# Altium footprint library Connector_Wire.PcbLib: 326 footprints (part 16 of 21)
Each footprint in its own frame and in the unit in brackets; x right, y up, seen from the top. Pads: shape width x height; smd on the part's side, far side on the other; paste and mask are expansions set on the pad; w line width, h text height; cw(c..) or ccw(c..) is an arc to the next point about the centre after c.
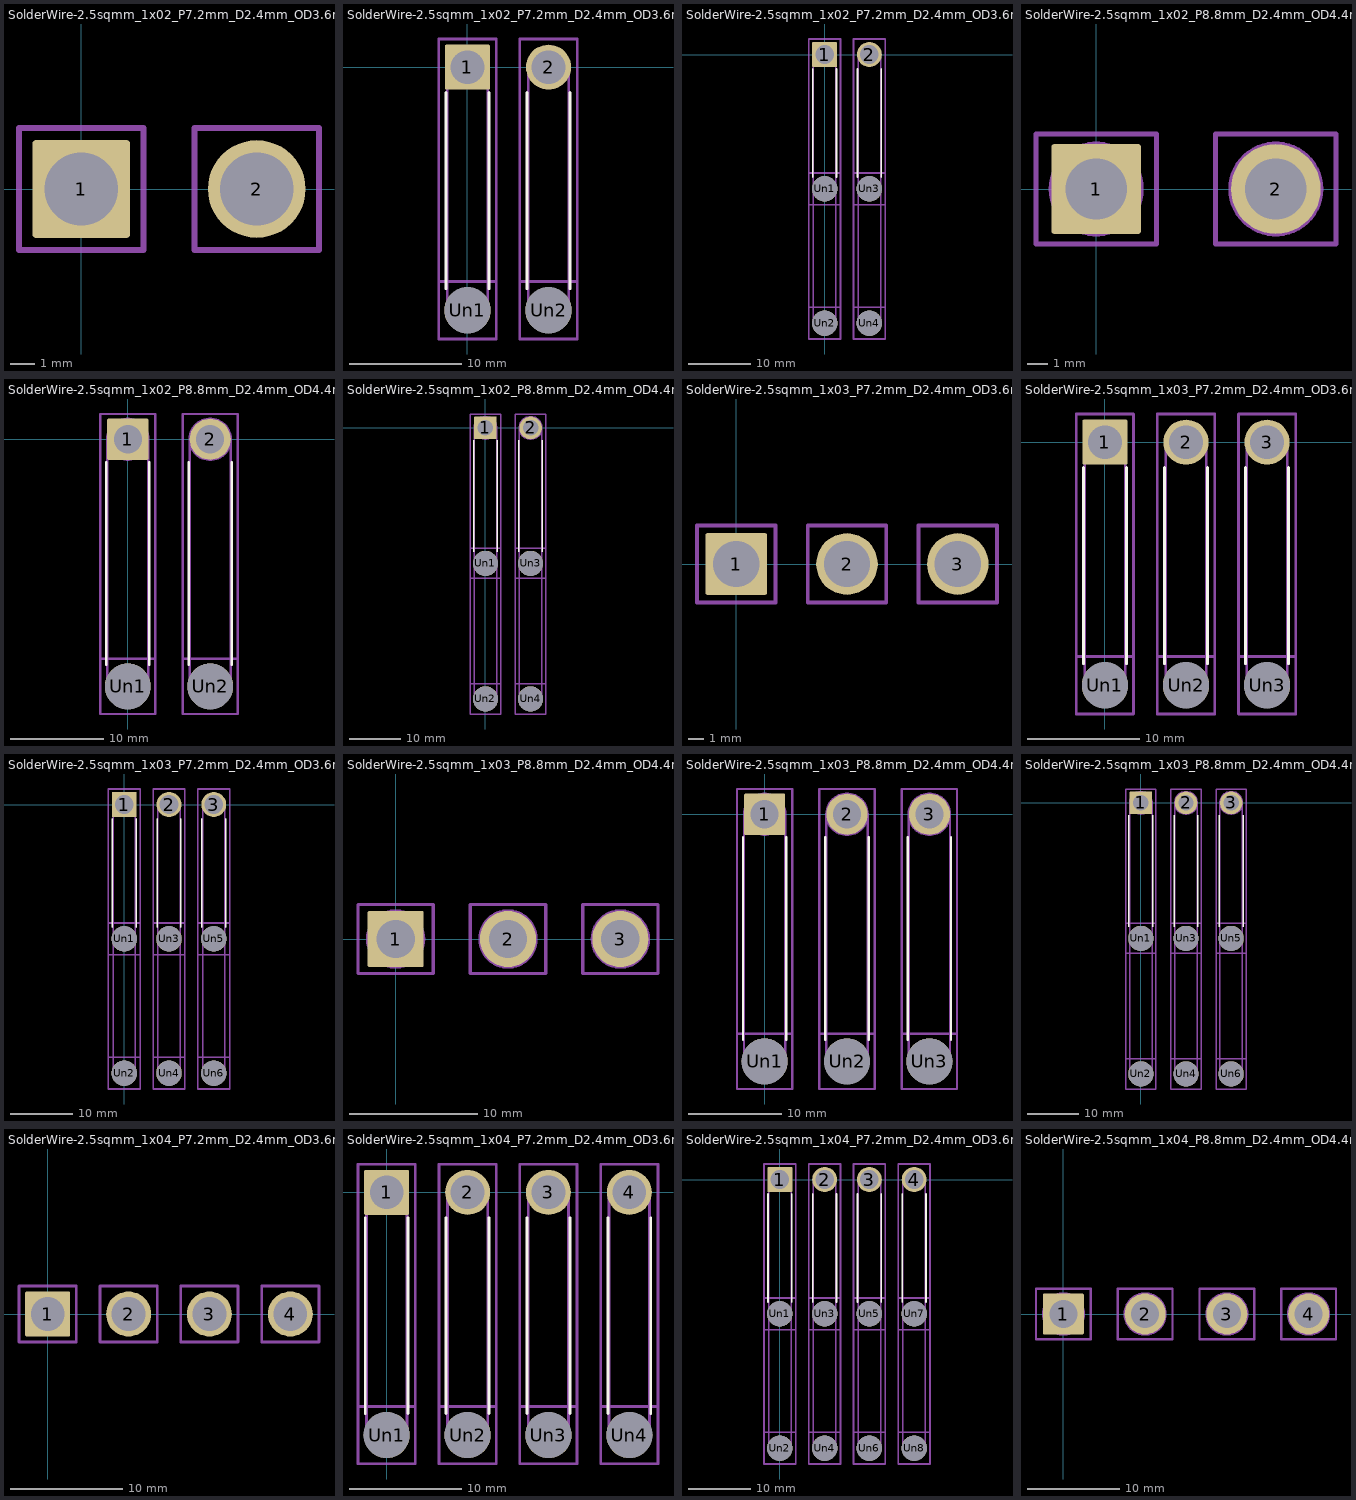
[diagram p15: the footprints below, top view; thin cyan lines are the x and y axes]

## SolderWire-2.5sqmm_1x02_P7.2mm_D2.4mm_OD3.6mm [mm]
pads (2):
  rrect6% 4x4 hole 3: 1(0,0)
  round 4 hole 3: 2(7.2,0)
Top Assembly:
  circle w0.254: c7.2,0 r1.8
  circle w0.254: c0,0 r1.8
  text "'.Designator'" at 4.44,-4.047 h1
Top Courtyard:
  lines w0.254: -2.55,-2.5 2.55,-2.5 2.55,2.5 -2.55,2.5 -2.55,-2.5 ; 4.65,-2.5 9.75,-2.5 9.75,2.5 4.65,2.5 4.65,-2.5
Top Designator:
  text ".Designator" at -4.018,-0.658 h1.52

## SolderWire-2.5sqmm_1x02_P7.2mm_D2.4mm_OD3.6mm_Relief [mm]
pads (4):
  rrect6% 4x4 hole 3: 1(0,0)
  round 4 hole 3: 2(7.2,0)
  round 4.1 hole 4.1: Un1(0,-21.6) Un2(7.2,-21.6)
F.SilkS:
  lines w0.254: -1.91,-19.69 -1.91,-2.26 ; 1.91,-19.69 1.91,-2.26 ; 5.29,-19.69 5.29,-2.26 ; 9.11,-19.69 9.11,-2.26
Top Assembly:
  circle w0.254: c7.2,-21.6 r1.8
  circle w0.254: c7.2,0 r1.8
  circle w0.254: c0,-21.6 r1.8
  circle w0.254: c0,0 r1.8
  lines w0.254: -1.8,-21.6 -1.8,0 ; 1.8,-21.6 1.8,0 ; 5.4,-21.6 5.4,0 ; 9,-21.6 9,0
  text "'.Designator'" at 4.44,-14.847 h1
Top Courtyard:
  lines w0.254: -2.55,-24.15 2.55,-24.15 2.55,2.5 -2.55,2.5 -2.55,-24.15 ; 4.65,-24.15 9.75,-24.15 9.75,2.5 4.65,2.5 4.65,-24.15
Bottom Courtyard:
  lines w0.254: -2.55,-24.15 2.55,-24.15 2.55,-19.05 -2.55,-19.05 -2.55,-24.15 ; 4.65,-24.15 9.75,-24.15 9.75,-19.05 4.65,-19.05 4.65,-24.15
Top Designator:
  text ".Designator" at -4.018,-11.333 h1.52

## SolderWire-2.5sqmm_1x02_P7.2mm_D2.4mm_OD3.6mm_Relief2x [mm]
pads (6):
  rrect6% 4x4 hole 3: 1(0,0)
  round 4 hole 3: 2(7.2,0)
  round 4.1 hole 4.1: Un1(0,-21.6) Un2(0,-43.2) Un3(7.2,-21.6) Un4(7.2,-43.2)
F.SilkS:
  lines w0.254: -1.91,-19.69 -1.91,-2.26 ; 1.91,-19.69 1.91,-2.26 ; 5.29,-19.69 5.29,-2.26 ; 9.11,-19.69 9.11,-2.26
B.SilkS:
  lines w0.254: -1.91,-41.29 -1.91,-23.51 ; 1.91,-41.29 1.91,-23.51 ; 5.29,-41.29 5.29,-23.51 ; 9.11,-41.29 9.11,-23.51
Top Assembly:
  circle w0.254: c7.2,-43.2 r1.8
  circle w0.254: c7.2,-21.6 r1.8
  circle w0.254: c7.2,0 r1.8
  circle w0.254: c0,-43.2 r1.8
  circle w0.254: c0,-21.6 r1.8
  circle w0.254: c0,0 r1.8
  lines w0.254: -1.8,-21.6 -1.8,0 ; 1.8,-21.6 1.8,0 ; 5.4,-21.6 5.4,0 ; 9,-21.6 9,0
  text "'.Designator'" at 4.44,-14.847 h1
Bottom Assembly:
  circle w0.254: c7.2,-43.2 r1.8
  circle w0.254: c7.2,-21.6 r1.8
  circle w0.254: c0,-43.2 r1.8
  circle w0.254: c0,-21.6 r1.8
  lines w0.254: -1.8,-43.2 -1.8,-21.6 ; 1.8,-43.2 1.8,-21.6 ; 5.4,-43.2 5.4,-21.6 ; 9,-43.2 9,-21.6
Top Courtyard:
  lines w0.254: -2.55,-45.75 2.55,-45.75 2.55,-40.65 -2.55,-40.65 -2.55,-45.75 ; -2.55,-24.15 2.55,-24.15 2.55,2.5 -2.55,2.5 -2.55,-24.15 ; 4.65,-45.75 9.75,-45.75 9.75,-40.65 4.65,-40.65 4.65,-45.75 ; 4.65,-24.15 9.75,-24.15 9.75,2.5 4.65,2.5 4.65,-24.15
Bottom Courtyard:
  lines w0.254: -2.55,-45.75 2.55,-45.75 2.55,-19.05 -2.55,-19.05 -2.55,-45.75 ; 4.65,-45.75 9.75,-45.75 9.75,-19.05 4.65,-19.05 4.65,-45.75
Top Designator:
  text ".Designator" at -4.018,-22.133 h1.52

## SolderWire-2.5sqmm_1x02_P8.8mm_D2.4mm_OD4.4mm [mm]
pads (2):
  rrect6% 4.4x4.4 hole 3: 1(0,0)
  round 4.4 hole 3: 2(8.8,0)
Top Assembly:
  circle w0.254: c8.8,0 r2.2
  circle w0.254: c0,0 r2.2
  text "'.Designator'" at 0.353,-0.84 h1
Top Courtyard:
  lines w0.254: -2.95,-2.7 2.95,-2.7 2.95,2.7 -2.95,2.7 -2.95,-2.7 ; 5.85,-2.7 11.75,-2.7 11.75,2.7 5.85,2.7 5.85,-2.7
Top Designator:
  text ".Designator" at -3.218,-0.508 h1.52

## SolderWire-2.5sqmm_1x02_P8.8mm_D2.4mm_OD4.4mm_Relief [mm]
pads (4):
  rrect6% 4.4x4.4 hole 3: 1(0,0)
  round 4.4 hole 3: 2(8.8,0)
  round 4.9 hole 4.9: Un1(0,-26.4) Un2(8.8,-26.4)
F.SilkS:
  lines w0.254: -2.31,-24.09 -2.31,-2.46 ; 2.31,-24.09 2.31,-2.46 ; 6.49,-24.09 6.49,-2.46 ; 11.11,-24.09 11.11,-2.46
Top Assembly:
  circle w0.254: c8.8,-26.4 r2.2
  circle w0.254: c8.8,0 r2.2
  circle w0.254: c0,-26.4 r2.2
  circle w0.254: c0,0 r2.2
  lines w0.254: -2.2,-26.4 -2.2,0 ; 2.2,-26.4 2.2,0 ; 6.6,-26.4 6.6,0 ; 11,-26.4 11,0
  text "'.Designator'" at 0.353,-14.04 h1
Top Courtyard:
  lines w0.254: -2.95,-29.35 2.95,-29.35 2.95,2.7 -2.95,2.7 -2.95,-29.35 ; 5.85,-29.35 11.75,-29.35 11.75,2.7 5.85,2.7 5.85,-29.35
Bottom Courtyard:
  lines w0.254: -2.95,-29.35 2.95,-29.35 2.95,-23.45 -2.95,-23.45 -2.95,-29.35 ; 5.85,-29.35 11.75,-29.35 11.75,-23.45 5.85,-23.45 5.85,-29.35
Top Designator:
  text ".Designator" at -3.218,-13.833 h1.52

## SolderWire-2.5sqmm_1x02_P8.8mm_D2.4mm_OD4.4mm_Relief2x [mm]
pads (6):
  rrect6% 4.4x4.4 hole 3: 1(0,0)
  round 4.4 hole 3: 2(8.8,0)
  round 4.9 hole 4.9: Un1(0,-26.4) Un2(0,-52.8) Un3(8.8,-26.4) Un4(8.8,-52.8)
F.SilkS:
  lines w0.254: -2.31,-24.09 -2.31,-2.46 ; 2.31,-24.09 2.31,-2.46 ; 6.49,-24.09 6.49,-2.46 ; 11.11,-24.09 11.11,-2.46
B.SilkS:
  lines w0.254: -2.31,-50.49 -2.31,-28.71 ; 2.31,-50.49 2.31,-28.71 ; 6.49,-50.49 6.49,-28.71 ; 11.11,-50.49 11.11,-28.71
Top Assembly:
  circle w0.254: c8.8,-52.8 r2.2
  circle w0.254: c8.8,-26.4 r2.2
  circle w0.254: c8.8,0 r2.2
  circle w0.254: c0,-52.8 r2.2
  circle w0.254: c0,-26.4 r2.2
  circle w0.254: c0,0 r2.2
  lines w0.254: -2.2,-26.4 -2.2,0 ; 2.2,-26.4 2.2,0 ; 6.6,-26.4 6.6,0 ; 11,-26.4 11,0
  text "'.Designator'" at 0.353,-14.04 h1
Bottom Assembly:
  circle w0.254: c8.8,-52.8 r2.2
  circle w0.254: c8.8,-26.4 r2.2
  circle w0.254: c0,-52.8 r2.2
  circle w0.254: c0,-26.4 r2.2
  lines w0.254: -2.2,-52.8 -2.2,-26.4 ; 2.2,-52.8 2.2,-26.4 ; 6.6,-52.8 6.6,-26.4 ; 11,-52.8 11,-26.4
Top Courtyard:
  lines w0.254: -2.95,-55.75 2.95,-55.75 2.95,-49.85 -2.95,-49.85 -2.95,-55.75 ; -2.95,-29.35 2.95,-29.35 2.95,2.7 -2.95,2.7 -2.95,-29.35 ; 5.85,-55.75 11.75,-55.75 11.75,-49.85 5.85,-49.85 5.85,-55.75 ; 5.85,-29.35 11.75,-29.35 11.75,2.7 5.85,2.7 5.85,-29.35
Bottom Courtyard:
  lines w0.254: -2.95,-55.75 2.95,-55.75 2.95,-23.45 -2.95,-23.45 -2.95,-55.75 ; 5.85,-55.75 11.75,-55.75 11.75,-23.45 5.85,-23.45 5.85,-55.75
Top Designator:
  text ".Designator" at -3.218,-27.033 h1.52

## SolderWire-2.5sqmm_1x03_P7.2mm_D2.4mm_OD3.6mm [mm]
pads (3):
  rrect6% 4x4 hole 3: 1(0,0)
  round 4 hole 3: 2(7.2,0) 3(14.4,0)
Top Assembly:
  circle w0.254: c14.4,0 r1.8
  circle w0.254: c7.2,0 r1.8
  circle w0.254: c0,0 r1.8
  text "'.Designator'" at 7.961,-3.647 h0.9
Top Courtyard:
  lines w0.254: -2.55,-2.5 2.55,-2.5 2.55,2.5 -2.55,2.5 -2.55,-2.5 ; 4.65,-2.5 9.75,-2.5 9.75,2.5 4.65,2.5 4.65,-2.5 ; 11.85,-2.5 16.95,-2.5 16.95,2.5 11.85,2.5 11.85,-2.5
Top Designator:
  text ".Designator" at -0.418,-0.648 h1.52

## SolderWire-2.5sqmm_1x03_P7.2mm_D2.4mm_OD3.6mm_Relief [mm]
pads (6):
  rrect6% 4x4 hole 3: 1(0,0)
  round 4 hole 3: 2(7.2,0) 3(14.4,0)
  round 4.1 hole 4.1: Un1(0,-21.6) Un2(7.2,-21.6) Un3(14.4,-21.6)
F.SilkS:
  lines w0.254: -1.91,-19.69 -1.91,-2.26 ; 1.91,-19.69 1.91,-2.26 ; 5.29,-19.69 5.29,-2.26 ; 9.11,-19.69 9.11,-2.26 ; 12.49,-19.69 12.49,-2.26 ; 16.31,-19.69 16.31,-2.26
Top Assembly:
  circle w0.254: c14.4,-21.6 r1.8
  circle w0.254: c14.4,0 r1.8
  circle w0.254: c7.2,-21.6 r1.8
  circle w0.254: c7.2,0 r1.8
  circle w0.254: c0,-21.6 r1.8
  circle w0.254: c0,0 r1.8
  lines w0.254: -1.8,-21.6 -1.8,0 ; 1.8,-21.6 1.8,0 ; 5.4,-21.6 5.4,0 ; 9,-21.6 9,0 ; 12.6,-21.6 12.6,0 ; 16.2,-21.6 16.2,0
  text "'.Designator'" at 8.04,-14.847 h1
Top Courtyard:
  lines w0.254: -2.55,-24.15 2.55,-24.15 2.55,2.5 -2.55,2.5 -2.55,-24.15 ; 4.65,-24.15 9.75,-24.15 9.75,2.5 4.65,2.5 4.65,-24.15 ; 11.85,-24.15 16.95,-24.15 16.95,2.5 11.85,2.5 11.85,-24.15
Bottom Courtyard:
  lines w0.254: -2.55,-24.15 2.55,-24.15 2.55,-19.05 -2.55,-19.05 -2.55,-24.15 ; 4.65,-24.15 9.75,-24.15 9.75,-19.05 4.65,-19.05 4.65,-24.15 ; 11.85,-24.15 16.95,-24.15 16.95,-19.05 11.85,-19.05 11.85,-24.15
Top Designator:
  text ".Designator" at -0.418,-11.333 h1.52

## SolderWire-2.5sqmm_1x03_P7.2mm_D2.4mm_OD3.6mm_Relief2x [mm]
pads (9):
  rrect6% 4x4 hole 3: 1(0,0)
  round 4 hole 3: 2(7.2,0) 3(14.4,0)
  round 4.1 hole 4.1: Un1(0,-21.6) Un2(0,-43.2) Un3(7.2,-21.6) Un4(7.2,-43.2) Un5(14.4,-21.6) Un6(14.4,-43.2)
F.SilkS:
  lines w0.254: -1.91,-19.69 -1.91,-2.26 ; 1.91,-19.69 1.91,-2.26 ; 5.29,-19.69 5.29,-2.26 ; 9.11,-19.69 9.11,-2.26 ; 12.49,-19.69 12.49,-2.26 ; 16.31,-19.69 16.31,-2.26
B.SilkS:
  lines w0.254: -1.91,-41.29 -1.91,-23.51 ; 1.91,-41.29 1.91,-23.51 ; 5.29,-41.29 5.29,-23.51 ; 9.11,-41.29 9.11,-23.51 ; 12.49,-41.29 12.49,-23.51 ; 16.31,-41.29 16.31,-23.51
Top Assembly:
  circle w0.254: c14.4,-43.2 r1.8
  circle w0.254: c14.4,-21.6 r1.8
  circle w0.254: c14.4,0 r1.8
  circle w0.254: c7.2,-43.2 r1.8
  circle w0.254: c7.2,-21.6 r1.8
  circle w0.254: c7.2,0 r1.8
  circle w0.254: c0,-43.2 r1.8
  circle w0.254: c0,-21.6 r1.8
  circle w0.254: c0,0 r1.8
  lines w0.254: -1.8,-21.6 -1.8,0 ; 1.8,-21.6 1.8,0 ; 5.4,-21.6 5.4,0 ; 9,-21.6 9,0 ; 12.6,-21.6 12.6,0 ; 16.2,-21.6 16.2,0
  text "'.Designator'" at 8.04,-14.847 h1
Bottom Assembly:
  circle w0.254: c14.4,-43.2 r1.8
  circle w0.254: c14.4,-21.6 r1.8
  circle w0.254: c7.2,-43.2 r1.8
  circle w0.254: c7.2,-21.6 r1.8
  circle w0.254: c0,-43.2 r1.8
  circle w0.254: c0,-21.6 r1.8
  lines w0.254: -1.8,-43.2 -1.8,-21.6 ; 1.8,-43.2 1.8,-21.6 ; 5.4,-43.2 5.4,-21.6 ; 9,-43.2 9,-21.6 ; 12.6,-43.2 12.6,-21.6 ; 16.2,-43.2 16.2,-21.6
Top Courtyard:
  lines w0.254: -2.55,-45.75 2.55,-45.75 2.55,-40.65 -2.55,-40.65 -2.55,-45.75 ; -2.55,-24.15 2.55,-24.15 2.55,2.5 -2.55,2.5 -2.55,-24.15 ; 4.65,-45.75 9.75,-45.75 9.75,-40.65 4.65,-40.65 4.65,-45.75 ; 4.65,-24.15 9.75,-24.15 9.75,2.5 4.65,2.5 4.65,-24.15 ; 11.85,-45.75 16.95,-45.75 16.95,-40.65 11.85,-40.65 11.85,-45.75 ; 11.85,-24.15 16.95,-24.15 16.95,2.5 11.85,2.5 11.85,-24.15
Bottom Courtyard:
  lines w0.254: -2.55,-45.75 2.55,-45.75 2.55,-19.05 -2.55,-19.05 -2.55,-45.75 ; 4.65,-45.75 9.75,-45.75 9.75,-19.05 4.65,-19.05 4.65,-45.75 ; 11.85,-45.75 16.95,-45.75 16.95,-19.05 11.85,-19.05 11.85,-45.75
Top Designator:
  text ".Designator" at -0.418,-22.133 h1.52

## SolderWire-2.5sqmm_1x03_P8.8mm_D2.4mm_OD4.4mm [mm]
pads (3):
  rrect6% 4.4x4.4 hole 3: 1(0,0)
  round 4.4 hole 3: 2(8.8,0) 3(17.6,0)
Top Assembly:
  circle w0.254: c17.6,0 r2.2
  circle w0.254: c8.8,0 r2.2
  circle w0.254: c0,0 r2.2
  text "'.Designator'" at 4.753,-0.84 h1
Top Courtyard:
  lines w0.254: -2.95,-2.7 2.95,-2.7 2.95,2.7 -2.95,2.7 -2.95,-2.7 ; 5.85,-2.7 11.75,-2.7 11.75,2.7 5.85,2.7 5.85,-2.7 ; 14.65,-2.7 20.55,-2.7 20.55,2.7 14.65,2.7 14.65,-2.7
Top Designator:
  text ".Designator" at 1.182,-0.508 h1.52

## SolderWire-2.5sqmm_1x03_P8.8mm_D2.4mm_OD4.4mm_Relief [mm]
pads (6):
  rrect6% 4.4x4.4 hole 3: 1(0,0)
  round 4.4 hole 3: 2(8.8,0) 3(17.6,0)
  round 4.9 hole 4.9: Un1(0,-26.4) Un2(8.8,-26.4) Un3(17.6,-26.4)
F.SilkS:
  lines w0.254: -2.31,-24.09 -2.31,-2.46 ; 2.31,-24.09 2.31,-2.46 ; 6.49,-24.09 6.49,-2.46 ; 11.11,-24.09 11.11,-2.46 ; 15.29,-24.09 15.29,-2.46 ; 19.91,-24.09 19.91,-2.46
Top Assembly:
  circle w0.254: c17.6,-26.4 r2.2
  circle w0.254: c17.6,0 r2.2
  circle w0.254: c8.8,-26.4 r2.2
  circle w0.254: c8.8,0 r2.2
  circle w0.254: c0,-26.4 r2.2
  circle w0.254: c0,0 r2.2
  lines w0.254: -2.2,-26.4 -2.2,0 ; 2.2,-26.4 2.2,0 ; 6.6,-26.4 6.6,0 ; 11,-26.4 11,0 ; 15.4,-26.4 15.4,0 ; 19.8,-26.4 19.8,0
  text "'.Designator'" at 4.753,-14.04 h1
Top Courtyard:
  lines w0.254: -2.95,-29.35 2.95,-29.35 2.95,2.7 -2.95,2.7 -2.95,-29.35 ; 5.85,-29.35 11.75,-29.35 11.75,2.7 5.85,2.7 5.85,-29.35 ; 14.65,-29.35 20.55,-29.35 20.55,2.7 14.65,2.7 14.65,-29.35
Bottom Courtyard:
  lines w0.254: -2.95,-29.35 2.95,-29.35 2.95,-23.45 -2.95,-23.45 -2.95,-29.35 ; 5.85,-29.35 11.75,-29.35 11.75,-23.45 5.85,-23.45 5.85,-29.35 ; 14.65,-29.35 20.55,-29.35 20.55,-23.45 14.65,-23.45 14.65,-29.35
Top Designator:
  text ".Designator" at 1.182,-13.833 h1.52

## SolderWire-2.5sqmm_1x03_P8.8mm_D2.4mm_OD4.4mm_Relief2x [mm]
pads (9):
  rrect6% 4.4x4.4 hole 3: 1(0,0)
  round 4.4 hole 3: 2(8.8,0) 3(17.6,0)
  round 4.9 hole 4.9: Un1(0,-26.4) Un2(0,-52.8) Un3(8.8,-26.4) Un4(8.8,-52.8) Un5(17.6,-26.4) Un6(17.6,-52.8)
F.SilkS:
  lines w0.254: -2.31,-24.09 -2.31,-2.46 ; 2.31,-24.09 2.31,-2.46 ; 6.49,-24.09 6.49,-2.46 ; 11.11,-24.09 11.11,-2.46 ; 15.29,-24.09 15.29,-2.46 ; 19.91,-24.09 19.91,-2.46
B.SilkS:
  lines w0.254: -2.31,-50.49 -2.31,-28.71 ; 2.31,-50.49 2.31,-28.71 ; 6.49,-50.49 6.49,-28.71 ; 11.11,-50.49 11.11,-28.71 ; 15.29,-50.49 15.29,-28.71 ; 19.91,-50.49 19.91,-28.71
Top Assembly:
  circle w0.254: c17.6,-52.8 r2.2
  circle w0.254: c17.6,-26.4 r2.2
  circle w0.254: c17.6,0 r2.2
  circle w0.254: c8.8,-52.8 r2.2
  circle w0.254: c8.8,-26.4 r2.2
  circle w0.254: c8.8,0 r2.2
  circle w0.254: c0,-52.8 r2.2
  circle w0.254: c0,-26.4 r2.2
  circle w0.254: c0,0 r2.2
  lines w0.254: -2.2,-26.4 -2.2,0 ; 2.2,-26.4 2.2,0 ; 6.6,-26.4 6.6,0 ; 11,-26.4 11,0 ; 15.4,-26.4 15.4,0 ; 19.8,-26.4 19.8,0
  text "'.Designator'" at 4.753,-14.04 h1
Bottom Assembly:
  circle w0.254: c17.6,-52.8 r2.2
  circle w0.254: c17.6,-26.4 r2.2
  circle w0.254: c8.8,-52.8 r2.2
  circle w0.254: c8.8,-26.4 r2.2
  circle w0.254: c0,-52.8 r2.2
  circle w0.254: c0,-26.4 r2.2
  lines w0.254: -2.2,-52.8 -2.2,-26.4 ; 2.2,-52.8 2.2,-26.4 ; 6.6,-52.8 6.6,-26.4 ; 11,-52.8 11,-26.4 ; 15.4,-52.8 15.4,-26.4 ; 19.8,-52.8 19.8,-26.4
Top Courtyard:
  lines w0.254: -2.95,-55.75 2.95,-55.75 2.95,-49.85 -2.95,-49.85 -2.95,-55.75 ; -2.95,-29.35 2.95,-29.35 2.95,2.7 -2.95,2.7 -2.95,-29.35 ; 5.85,-55.75 11.75,-55.75 11.75,-49.85 5.85,-49.85 5.85,-55.75 ; 5.85,-29.35 11.75,-29.35 11.75,2.7 5.85,2.7 5.85,-29.35 ; 14.65,-55.75 20.55,-55.75 20.55,-49.85 14.65,-49.85 14.65,-55.75 ; 14.65,-29.35 20.55,-29.35 20.55,2.7 14.65,2.7 14.65,-29.35
Bottom Courtyard:
  lines w0.254: -2.95,-55.75 2.95,-55.75 2.95,-23.45 -2.95,-23.45 -2.95,-55.75 ; 5.85,-55.75 11.75,-55.75 11.75,-23.45 5.85,-23.45 5.85,-55.75 ; 14.65,-55.75 20.55,-55.75 20.55,-23.45 14.65,-23.45 14.65,-55.75
Top Designator:
  text ".Designator" at 1.182,-27.033 h1.52

## SolderWire-2.5sqmm_1x04_P7.2mm_D2.4mm_OD3.6mm [mm]
pads (4):
  rrect6% 4x4 hole 3: 1(0,0)
  round 4 hole 3: 2(7.2,0) 3(14.4,0) 4(21.6,0)
Top Assembly:
  circle w0.254: c21.6,0 r1.8
  circle w0.254: c14.4,0 r1.8
  circle w0.254: c7.2,0 r1.8
  circle w0.254: c0,0 r1.8
  text "'.Designator'" at 11.64,-4.047 h1
Top Courtyard:
  lines w0.254: -2.55,-2.5 2.55,-2.5 2.55,2.5 -2.55,2.5 -2.55,-2.5 ; 4.65,-2.5 9.75,-2.5 9.75,2.5 4.65,2.5 4.65,-2.5 ; 11.85,-2.5 16.95,-2.5 16.95,2.5 11.85,2.5 11.85,-2.5 ; 19.05,-2.5 24.15,-2.5 24.15,2.5 19.05,2.5 19.05,-2.5
Top Designator:
  text ".Designator" at 3.182,-0.658 h1.52

## SolderWire-2.5sqmm_1x04_P7.2mm_D2.4mm_OD3.6mm_Relief [mm]
pads (8):
  rrect6% 4x4 hole 3: 1(0,0)
  round 4 hole 3: 2(7.2,0) 3(14.4,0) 4(21.6,0)
  round 4.1 hole 4.1: Un1(0,-21.6) Un2(7.2,-21.6) Un3(14.4,-21.6) Un4(21.6,-21.6)
F.SilkS:
  lines w0.254: -1.91,-19.69 -1.91,-2.26 ; 1.91,-19.69 1.91,-2.26 ; 5.29,-19.69 5.29,-2.26 ; 9.11,-19.69 9.11,-2.26 ; 12.49,-19.69 12.49,-2.26 ; 16.31,-19.69 16.31,-2.26 ; 19.69,-19.69 19.69,-2.26 ; 23.51,-19.69 23.51,-2.26
Top Assembly:
  circle w0.254: c21.6,-21.6 r1.8
  circle w0.254: c21.6,0 r1.8
  circle w0.254: c14.4,-21.6 r1.8
  circle w0.254: c14.4,0 r1.8
  circle w0.254: c7.2,-21.6 r1.8
  circle w0.254: c7.2,0 r1.8
  circle w0.254: c0,-21.6 r1.8
  circle w0.254: c0,0 r1.8
  lines w0.254: -1.8,-21.6 -1.8,0 ; 1.8,-21.6 1.8,0 ; 5.4,-21.6 5.4,0 ; 9,-21.6 9,0 ; 12.6,-21.6 12.6,0 ; 16.2,-21.6 16.2,0 ; 19.8,-21.6 19.8,0 ; 23.4,-21.6 23.4,0
  text "'.Designator'" at 11.64,-14.847 h1
Top Courtyard:
  lines w0.254: -2.55,-24.15 2.55,-24.15 2.55,2.5 -2.55,2.5 -2.55,-24.15 ; 4.65,-24.15 9.75,-24.15 9.75,2.5 4.65,2.5 4.65,-24.15 ; 11.85,-24.15 16.95,-24.15 16.95,2.5 11.85,2.5 11.85,-24.15 ; 19.05,-24.15 24.15,-24.15 24.15,2.5 19.05,2.5 19.05,-24.15
Bottom Courtyard:
  lines w0.254: -2.55,-24.15 2.55,-24.15 2.55,-19.05 -2.55,-19.05 -2.55,-24.15 ; 4.65,-24.15 9.75,-24.15 9.75,-19.05 4.65,-19.05 4.65,-24.15 ; 11.85,-24.15 16.95,-24.15 16.95,-19.05 11.85,-19.05 11.85,-24.15 ; 19.05,-24.15 24.15,-24.15 24.15,-19.05 19.05,-19.05 19.05,-24.15
Top Designator:
  text ".Designator" at 3.182,-11.333 h1.52

## SolderWire-2.5sqmm_1x04_P7.2mm_D2.4mm_OD3.6mm_Relief2x [mm]
pads (12):
  rrect6% 4x4 hole 3: 1(0,0)
  round 4 hole 3: 2(7.2,0) 3(14.4,0) 4(21.6,0)
  round 4.1 hole 4.1: Un1(0,-21.6) Un2(0,-43.2) Un3(7.2,-21.6) Un4(7.2,-43.2) Un5(14.4,-21.6) Un6(14.4,-43.2) Un7(21.6,-21.6) Un8(21.6,-43.2)
F.SilkS:
  lines w0.254: -1.91,-19.69 -1.91,-2.26 ; 1.91,-19.69 1.91,-2.26 ; 5.29,-19.69 5.29,-2.26 ; 9.11,-19.69 9.11,-2.26 ; 12.49,-19.69 12.49,-2.26 ; 16.31,-19.69 16.31,-2.26 ; 19.69,-19.69 19.69,-2.26 ; 23.51,-19.69 23.51,-2.26
B.SilkS:
  lines w0.254: -1.91,-41.29 -1.91,-23.51 ; 1.91,-41.29 1.91,-23.51 ; 5.29,-41.29 5.29,-23.51 ; 9.11,-41.29 9.11,-23.51 ; 12.49,-41.29 12.49,-23.51 ; 16.31,-41.29 16.31,-23.51 ; 19.69,-41.29 19.69,-23.51 ; 23.51,-41.29 23.51,-23.51
Top Assembly:
  circle w0.254: c21.6,-43.2 r1.8
  circle w0.254: c21.6,-21.6 r1.8
  circle w0.254: c21.6,0 r1.8
  circle w0.254: c14.4,-43.2 r1.8
  circle w0.254: c14.4,-21.6 r1.8
  circle w0.254: c14.4,0 r1.8
  circle w0.254: c7.2,-43.2 r1.8
  circle w0.254: c7.2,-21.6 r1.8
  circle w0.254: c7.2,0 r1.8
  circle w0.254: c0,-43.2 r1.8
  circle w0.254: c0,-21.6 r1.8
  circle w0.254: c0,0 r1.8
  lines w0.254: -1.8,-21.6 -1.8,0 ; 1.8,-21.6 1.8,0 ; 5.4,-21.6 5.4,0 ; 9,-21.6 9,0 ; 12.6,-21.6 12.6,0 ; 16.2,-21.6 16.2,0 ; 19.8,-21.6 19.8,0 ; 23.4,-21.6 23.4,0
  text "'.Designator'" at 11.64,-14.847 h1
Bottom Assembly:
  circle w0.254: c21.6,-43.2 r1.8
  circle w0.254: c21.6,-21.6 r1.8
  circle w0.254: c14.4,-43.2 r1.8
  circle w0.254: c14.4,-21.6 r1.8
  circle w0.254: c7.2,-43.2 r1.8
  circle w0.254: c7.2,-21.6 r1.8
  circle w0.254: c0,-43.2 r1.8
  circle w0.254: c0,-21.6 r1.8
  lines w0.254: -1.8,-43.2 -1.8,-21.6 ; 1.8,-43.2 1.8,-21.6 ; 5.4,-43.2 5.4,-21.6 ; 9,-43.2 9,-21.6 ; 12.6,-43.2 12.6,-21.6 ; 16.2,-43.2 16.2,-21.6 ; 19.8,-43.2 19.8,-21.6 ; 23.4,-43.2 23.4,-21.6
Top Courtyard:
  lines w0.254: -2.55,-45.75 2.55,-45.75 2.55,-40.65 -2.55,-40.65 -2.55,-45.75 ; -2.55,-24.15 2.55,-24.15 2.55,2.5 -2.55,2.5 -2.55,-24.15 ; 4.65,-45.75 9.75,-45.75 9.75,-40.65 4.65,-40.65 4.65,-45.75 ; 4.65,-24.15 9.75,-24.15 9.75,2.5 4.65,2.5 4.65,-24.15 ; 11.85,-45.75 16.95,-45.75 16.95,-40.65 11.85,-40.65 11.85,-45.75 ; 11.85,-24.15 16.95,-24.15 16.95,2.5 11.85,2.5 11.85,-24.15 ; 19.05,-45.75 24.15,-45.75 24.15,-40.65 19.05,-40.65 19.05,-45.75 ; 19.05,-24.15 24.15,-24.15 24.15,2.5 19.05,2.5 19.05,-24.15
Bottom Courtyard:
  lines w0.254: -2.55,-45.75 2.55,-45.75 2.55,-19.05 -2.55,-19.05 -2.55,-45.75 ; 4.65,-45.75 9.75,-45.75 9.75,-19.05 4.65,-19.05 4.65,-45.75 ; 11.85,-45.75 16.95,-45.75 16.95,-19.05 11.85,-19.05 11.85,-45.75 ; 19.05,-45.75 24.15,-45.75 24.15,-19.05 19.05,-19.05 19.05,-45.75
Top Designator:
  text ".Designator" at 3.182,-22.133 h1.52

## SolderWire-2.5sqmm_1x04_P8.8mm_D2.4mm_OD4.4mm [mm]
pads (4):
  rrect6% 4.4x4.4 hole 3: 1(0,0)
  round 4.4 hole 3: 2(8.8,0) 3(17.6,0) 4(26.4,0)
Top Assembly:
  circle w0.254: c26.4,0 r2.2
  circle w0.254: c17.6,0 r2.2
  circle w0.254: c8.8,0 r2.2
  circle w0.254: c0,0 r2.2
  text "'.Designator'" at 9.153,-0.84 h1
Top Courtyard:
  lines w0.254: -2.95,-2.7 2.95,-2.7 2.95,2.7 -2.95,2.7 -2.95,-2.7 ; 5.85,-2.7 11.75,-2.7 11.75,2.7 5.85,2.7 5.85,-2.7 ; 14.65,-2.7 20.55,-2.7 20.55,2.7 14.65,2.7 14.65,-2.7 ; 23.45,-2.7 29.35,-2.7 29.35,2.7 23.45,2.7 23.45,-2.7
Top Designator:
  text ".Designator" at 5.582,-0.508 h1.52